# Altium schematic symbol library FlybckTrans_Wurth_750310742.SchLib: 1 symbol
Pins are listed as number, name and electrical type; pins without a type are passive.

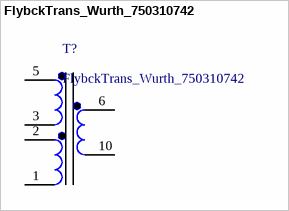
[diagram p0: symbol FlybckTrans_Wurth_750310742]

## FlybckTrans_Wurth_750310742
designator T?
pins: 1, 2, 3, 5, 6, 10